# EAGLE library part XF2*-06? (library JLB6_Connec)
OMRON FPC Connector Source : http://www.omron.com/ecb/products/pdf/fpc.pdf
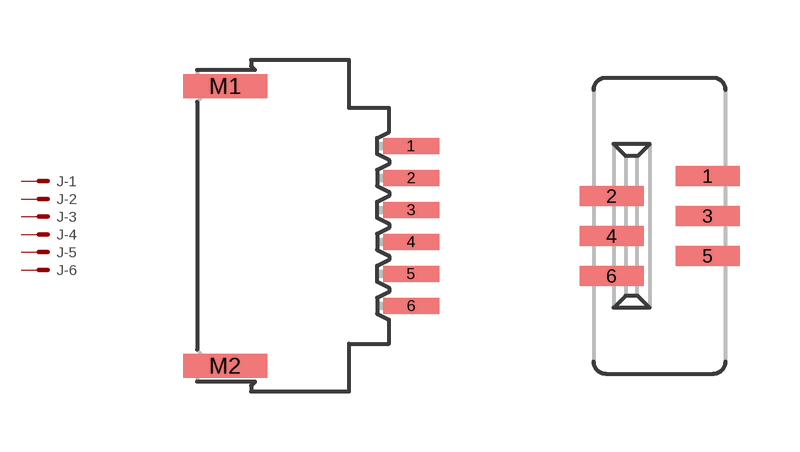
[diagram p80: symbol with the pads of XF2E-0615-1; footprints XF2E-0615-1, XF2G-0614-11]

Designator prefix J; gates -1=P -2=P -3=P -4=P -5=P -6=P

## XF2E-0615-1  [XF2E-0615-1]
1  -1:MS  pas
2  -2:MS  pas
3  -3:MS  pas
4  -4:MS  pas
5  -5:MS  pas
6  -6:MS  pas

## XF2G-0614-11  [XF2G-0614-11]
Pads as for XF2E-0615-1

## XF2J-0624-11  [XF2J-0624-11]
Pads as for XF2E-0615-1

## XF2L-0625-1  [XF2L-0625-1]
Pads as for XF2E-0615-1

## XF2L-0635-1  [XF2L-0635-1]
Pads as for XF2E-0615-1

## XF2R-0615-4A  [XF2R-0615-4A]
Pads as for XF2E-0615-1

## Footprint XF2E-0615-1 (pad centres in mm)
Non-ZIF Type (0.8 mm-pitch) Source : http://www.omron.com/ecb/products/pdf/fpc.pdf
smd 1.4 x 0.4: 1 2.54,2; 2 2.54,1.2; 3 2.54,0.4; 4 2.54,-0.4; 5 2.54,-1.2; 6 2.54,-2
smd 2.1 x 0.6: M1 -2.11,3.5; M2 -2.11,-3.5

## Footprint XF2G-0614-11 (pad centres in mm)
Non-ZIF Type (0.5 mm-pitch) Source : http://www.omron.com/ecb/products/pdf/fpc.pdf
smd 1.6 x 0.5: 1 1.2,1.25; 2 -1.2,0.75; 3 1.2,0.25; 4 -1.2,-0.25; 5 1.2,-0.75; 6 -1.2,-1.25

## Footprint XF2J-0624-11 (pad centres in mm)
ZIF Slide-locking Type (0.5 mm-pitch) Standard Source : http://www.omron.com/ecb/products/pdf/fpc.pdf
smd 1.6 x 0.5: 1 1.2,1.25; 2 -1.2,0.75; 3 1.2,0.25; 4 -1.2,-0.25; 5 1.2,-0.75; 6 -1.2,-1.25
smd 2.9 x 1.4: M1 0,2.95; M2 0,-2.95

## Footprint XF2L-0625-1 (pad centres in mm)
ZIF Slide-locking Type (0.5 mm-pitch) Upper-contact Type Source : http://www.omron.com/ecb/products/pdf/fpc.pdf
smd 1 x 0.25: 1 1.905,1.25; 2 1.905,0.75; 3 1.905,0.25; 4 1.905,-0.25; 5 1.905,-0.75; 6 1.905,-1.25
smd 1.34 x 1: M1 0.18,3.638; M2 0.18,-3.638

## Footprint XF2L-0635-1 (pad centres in mm)
ZIF Slide-locking Type (0.5 mm-pitch) Lower-contact Type Source : http://www.omron.com/ecb/products/pdf/fpc.pdf
smd 1 x 0.25: 1 1.905,1.25; 2 1.905,0.75; 3 1.905,0.25; 4 1.905,-0.25; 5 1.905,-0.75; 6 1.905,-1.25
smd 1.34 x 1: M1 0.18,3.638; M2 0.18,-3.638

## Footprint XF2R-0615-4A (pad centres in mm)
Low-profile Rotary Backlock Type (0.5 mm-pitch) Source : http://www.omron.com/ecb/products/pdf/fpc.pdf
smd 0.85 x 0.25: 1 -2.54,1.25; 2 -2.54,0.75; 3 -2.54,0.25; 4 -2.54,-0.25; 5 -2.54,-0.75; 6 -2.54,-1.25
smd 1.4 x 1: M1 -0.915,2.55; M2 -0.915,-2.55